# Altium schematic symbol library WL-SMTD.SchLib: 28 symbols
Pins are listed as number, name and electrical type; pins without a type are passive.

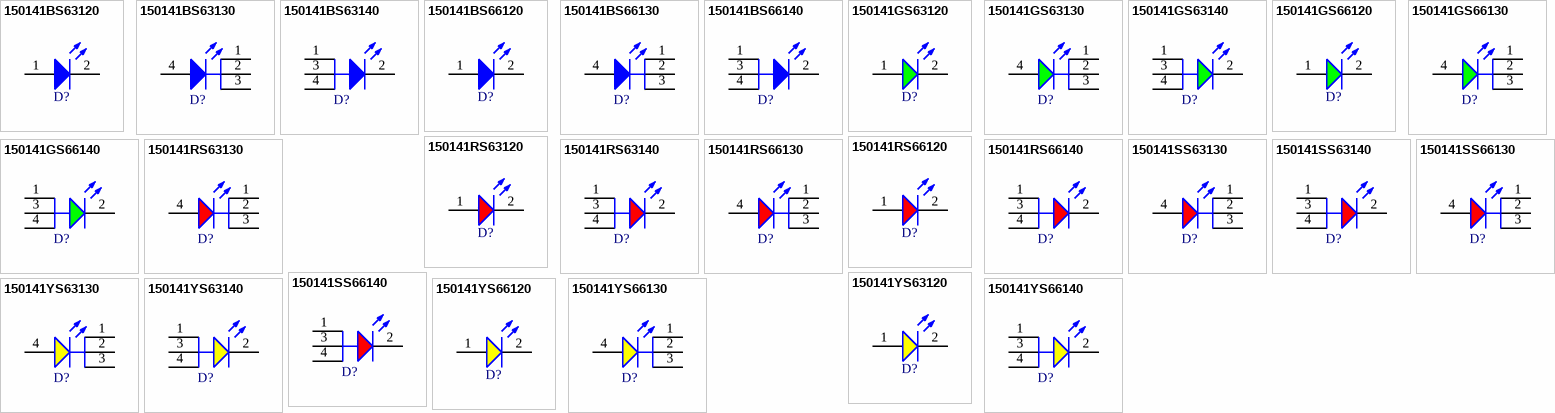
[diagram p0: symbols 150141BS63120 to 150141YS66140]

## 150141BS63120
designator D?, comment Blue, 3.2V, 30°  (value not drawn)
WL-SMTD Mono-color TOP LED Diffused Dome, SMT, 3528 30° dome black, Blue, 3.2V, 30°; Manufacturer Part Number: 150141BS63120; Manufacturer: Wurth Elektronik; Chip Technology: InGaN; Dominant Wavelength: 470nm; Luminous Intensity: 4000mcd; Peak Wavelength: 465nm; Category: Signal LEDs; Match Code: WL-SMTD; ComponentLink1Description: Website Link; ComponentLink1URL: https://www.we-online.com/redexpert/article/150141BS63120?ad; ComponentLink2Description: Datasheet Link; ComponentLink2URL: https://www.we-online.com/redexpert/spec/150141BS63120?ad; Mount: Surface Mount; Operating Temperature Max: 100°C; Operating Temperature Min: -40°C; Packaging: Tape and Reel; Case/Size Code: 3528 30° dome black; Length: 3.5mm; Width: 2.8mm; Height: 3.4mm; Emitting Color: Blue; Forward Voltage: 3.2V; Viewing Angle: 30°
footprint 150141xx63120
pins: 1 A, 2 K

## 150141BS63130
designator D?, comment Blue, 3.2V, 30°  (value not drawn)
WL-SMTD Mono-color TOP LED Diffused Dome, SMT, 3528 30° dome, Blue, 3.2V, 30°; Manufacturer Part Number: 150141BS63130; Manufacturer: Wurth Elektronik; Chip Technology: InGaN; Dominant Wavelength: 470nm; Luminous Intensity: 6000mcd; Peak Wavelength: 465nm; Category: Signal LEDs; Match Code: WL-SMTD; ComponentLink1Description: Website Link; ComponentLink1URL: https://www.we-online.com/redexpert/article/150141BS63130?ad; ComponentLink2Description: Datasheet Link; ComponentLink2URL: https://www.we-online.com/redexpert/spec/150141BS63130?ad; Mount: Surface Mount; Operating Temperature Max: 100°C; Operating Temperature Min: -40°C; Packaging: Tape and Reel; Case/Size Code: 3528 30° dome; Length: 2.8mm; Width: 3.5mm; Height: 3.5mm; Emitting Color: Blue; Forward Voltage: 3.2V; Viewing Angle: 30°
footprint 150141xx63130
simulation model 3528_150141BS63130
pins: 1 K, 2 K, 3 K, 4 A

## 150141BS63140
designator D?, comment Blue, 3.2V, 30°  (value not drawn)
WL-SMTD Mono-color TOP LED Diffused Dome, SMT, 3528 30° dome, Blue, 3.2V, 30°; Manufacturer Part Number: 150141BS63140; Manufacturer: Wurth Elektronik; Chip Technology: InGaN; Dominant Wavelength: 470nm; Luminous Intensity: 6000mcd; Peak Wavelength: 465nm; Category: Signal LEDs; Match Code: WL-SMTD; ComponentLink1Description: Website Link; ComponentLink1URL: https://www.we-online.com/redexpert/article/150141BS63140?ad; ComponentLink2Description: Datasheet Link; ComponentLink2URL: https://www.we-online.com/redexpert/spec/150141BS63140?ad; Mount: Surface Mount; Operating Temperature Max: 100°C; Operating Temperature Min: -40°C; Packaging: Tape and Reel; Case/Size Code: 3528 30° dome; Length: 2.8mm; Width: 3.5mm; Height: 3.5mm; Emitting Color: Blue; Forward Voltage: 3.2V; Viewing Angle: 30°
footprint 150141xx63140
simulation model 3528_150141BS63140
pins: 1 A, 2 K, 3 A, 4 A

## 150141BS66120
designator D?, comment Blue, 3.2V, 60°  (value not drawn)
WL-SMTD Mono-color TOP LED Diffused Dome, SMT, 3528 60° dome black, Blue, 3.2V, 60°; Manufacturer Part Number: 150141BS66120; Manufacturer: Wurth Elektronik; Chip Technology: InGaN; Dominant Wavelength: 470nm; Luminous Intensity: 3000mcd; Peak Wavelength: 465nm; Category: Signal LEDs; Match Code: WL-SMTD; ComponentLink1Description: Website Link; ComponentLink1URL: https://www.we-online.com/redexpert/article/150141BS66120?ad; ComponentLink2Description: Datasheet Link; ComponentLink2URL: https://www.we-online.com/redexpert/spec/150141BS66120?ad; Mount: Surface Mount; Operating Temperature Max: 100°C; Operating Temperature Min: -40°C; Packaging: Tape and Reel; Case/Size Code: 3528 60° dome black; Length: 3.5mm; Width: 2.8mm; Height: 3.2mm; Emitting Color: Blue; Forward Voltage: 3.2V; Viewing Angle: 60°
footprint 150141xx66120
pins: 1 A, 2 K

## 150141BS66130
designator D?, comment Blue, 3.2V, 60°  (value not drawn)
WL-SMTD Mono-color TOP LED Diffused Dome, SMT, 3528 60° dome, Blue, 3.2V, 60°; Manufacturer Part Number: 150141BS66130; Manufacturer: Wurth Elektronik; Chip Technology: InGaN; Dominant Wavelength: 470nm; Luminous Intensity: 3500mcd; Peak Wavelength: 465nm; Category: Signal LEDs; Match Code: WL-SMTD; ComponentLink1Description: Website Link; ComponentLink1URL: https://www.we-online.com/redexpert/article/150141BS66130?ad; ComponentLink2Description: Datasheet Link; ComponentLink2URL: https://www.we-online.com/redexpert/spec/150141BS66130?ad; Mount: Surface Mount; Operating Temperature Max: 100°C; Operating Temperature Min: -40°C; Packaging: Tape and Reel; Case/Size Code: 3528 60° dome; Length: 2.8mm; Width: 3.5mm; Height: 3.25mm; Emitting Color: Blue; Forward Voltage: 3.2V; Viewing Angle: 60°
footprint 150141xx66130
simulation model 3528_150141BS66130
pins: 1 K, 2 K, 3 K, 4 A

## 150141BS66140
designator D?, comment Blue, 3.2V, 60°  (value not drawn)
WL-SMTD Mono-color TOP LED Diffused Dome, SMT, 3528 60° dome, Blue, 3.2V, 60°; Manufacturer Part Number: 150141BS66140; Manufacturer: Wurth Elektronik; Chip Technology: InGaN; Dominant Wavelength: 470nm; Luminous Intensity: 3500mcd; Peak Wavelength: 465nm; Category: Signal LEDs; Match Code: WL-SMTD; ComponentLink1Description: Website Link; ComponentLink1URL: https://www.we-online.com/redexpert/article/150141BS66140?ad; ComponentLink2Description: Datasheet Link; ComponentLink2URL: https://www.we-online.com/redexpert/spec/150141BS66140?ad; Mount: Surface Mount; Operating Temperature Max: 100°C; Operating Temperature Min: -40°C; Packaging: Tape and Reel; Case/Size Code: 3528 60° dome; Length: 2.8mm; Width: 3.5mm; Height: 3.25mm; Emitting Color: Blue; Forward Voltage: 3.2V; Viewing Angle: 60°
footprint 150141xx66140
simulation model 3528_150141BS66140
pins: 1 A, 2 K, 3 A, 4 A

## 150141GS63120
designator D?, comment Green, 3.1V, 30°  (value not drawn)
WL-SMTD Mono-color TOP LED Diffused Dome, SMT, 3528 30° dome black, Green, 3.1V, 30°; Manufacturer Part Number: 150141GS63120; Manufacturer: Wurth Elektronik; Chip Technology: InGaN; Dominant Wavelength: 525nm; Luminous Intensity: 8000mcd; Peak Wavelength: 515nm; Category: Signal LEDs; Match Code: WL-SMTD; ComponentLink1Description: Website Link; ComponentLink1URL: https://www.we-online.com/redexpert/article/150141GS63120?ad; ComponentLink2Description: Datasheet Link; ComponentLink2URL: https://www.we-online.com/redexpert/spec/150141GS63120?ad; Mount: Surface Mount; Operating Temperature Max: 100°C; Operating Temperature Min: -40°C; Packaging: Tape and Reel; Case/Size Code: 3528 30° dome black; Length: 3.5mm; Width: 2.8mm; Height: 3.4mm; Emitting Color: Green; Forward Voltage: 3.1V; Viewing Angle: 30°
footprint 150141xx63120
pins: 1 A, 2 K

## 150141GS63130
designator D?, comment Green, 3.2V, 30°  (value not drawn)
WL-SMTD Mono-color TOP LED Diffused Dome, SMT, 3528 30° dome, Green, 3.2V, 30°; Manufacturer Part Number: 150141GS63130; Manufacturer: Wurth Elektronik; Chip Technology: InGaN; Dominant Wavelength: 520nm; Luminous Intensity: 30000mcd; Peak Wavelength: 515nm; Category: Signal LEDs; Match Code: WL-SMTD; ComponentLink1Description: Website Link; ComponentLink1URL: https://www.we-online.com/redexpert/article/150141GS63130?ad; ComponentLink2Description: Datasheet Link; ComponentLink2URL: https://www.we-online.com/redexpert/spec/150141GS63130?ad; Mount: Surface Mount; Operating Temperature Max: 100°C; Operating Temperature Min: -40°C; Packaging: Tape and Reel; Case/Size Code: 3528 30° dome; Length: 2.8mm; Width: 3.5mm; Height: 3.5mm; Emitting Color: Green; Forward Voltage: 3.2V; Viewing Angle: 30°
footprint 150141xx63130
simulation model 3528_150141GS63130
pins: 1 K, 2 K, 3 K, 4 A

## 150141GS63140
designator D?, comment Green, 3.2V, 30°  (value not drawn)
WL-SMTD Mono-color TOP LED Diffused Dome, SMT, 3528 30° dome, Green, 3.2V, 30°; Manufacturer Part Number: 150141GS63140; Manufacturer: Wurth Elektronik; Chip Technology: InGaN; Dominant Wavelength: 520nm; Luminous Intensity: 30000mcd; Peak Wavelength: 515nm; Category: Signal LEDs; Match Code: WL-SMTD; ComponentLink1Description: Website Link; ComponentLink1URL: https://www.we-online.com/redexpert/article/150141GS63140?ad; ComponentLink2Description: Datasheet Link; ComponentLink2URL: https://www.we-online.com/redexpert/spec/150141GS63140?ad; Mount: Surface Mount; Operating Temperature Max: 100°C; Operating Temperature Min: -40°C; Packaging: Tape and Reel; Case/Size Code: 3528 30° dome; Length: 2.8mm; Width: 3.5mm; Height: 3.5mm; Emitting Color: Green; Forward Voltage: 3.2V; Viewing Angle: 30°
footprint 150141xx63140
simulation model 3528_150141GS63140
pins: 1 A, 2 K, 3 A, 4 A

## 150141GS66120
designator D?, comment Green, 3.1V, 60°  (value not drawn)
WL-SMTD Mono-color TOP LED Diffused Dome, SMT, 3528 60° dome black, Green, 3.1V, 60°; Manufacturer Part Number: 150141GS66120; Manufacturer: Wurth Elektronik; Chip Technology: InGaN; Dominant Wavelength: 525nm; Luminous Intensity: 5000mcd; Peak Wavelength: 515nm; Category: Signal LEDs; Match Code: WL-SMTD; ComponentLink1Description: Website Link; ComponentLink1URL: https://www.we-online.com/redexpert/article/150141GS66120?ad; ComponentLink2Description: Datasheet Link; ComponentLink2URL: https://www.we-online.com/redexpert/spec/150141GS66120?ad; Mount: Surface Mount; Operating Temperature Max: 100°C; Operating Temperature Min: -40°C; Packaging: Tape and Reel; Case/Size Code: 3528 60° dome black; Length: 3.5mm; Width: 2.8mm; Height: 3.2mm; Emitting Color: Green; Forward Voltage: 3.1V; Viewing Angle: 60°
footprint 150141xx66120
pins: 1 A, 2 K

## 150141GS66130
designator D?, comment Green, 3.2V, 60°  (value not drawn)
WL-SMTD Mono-color TOP LED Diffused Dome, SMT, 3528 60° dome, Green, 3.2V, 60°; Manufacturer Part Number: 150141GS66130; Manufacturer: Wurth Elektronik; Chip Technology: InGaN; Dominant Wavelength: 520nm; Luminous Intensity: 20000mcd; Peak Wavelength: 515nm; Category: Signal LEDs; Match Code: WL-SMTD; ComponentLink1Description: Website Link; ComponentLink1URL: https://www.we-online.com/redexpert/article/150141GS66130?ad; ComponentLink2Description: Datasheet Link; ComponentLink2URL: https://www.we-online.com/redexpert/spec/150141GS66130?ad; Mount: Surface Mount; Operating Temperature Max: 100°C; Operating Temperature Min: -40°C; Packaging: Tape and Reel; Case/Size Code: 3528 60° dome; Length: 2.8mm; Width: 3.5mm; Height: 3.25mm; Emitting Color: Green; Forward Voltage: 3.2V; Viewing Angle: 60°
footprint 150141xx66130
simulation model 3528_150141GS66130
pins: 1 K, 2 K, 3 K, 4 A

## 150141GS66140
designator D?, comment Green, 3.2V, 60°  (value not drawn)
WL-SMTD Mono-color TOP LED Diffused Dome, SMT, 3528 60° dome, Green, 3.2V, 60°; Manufacturer Part Number: 150141GS66140; Manufacturer: Wurth Elektronik; Chip Technology: InGaN; Dominant Wavelength: 520nm; Luminous Intensity: 20000mcd; Peak Wavelength: 515nm; Category: Signal LEDs; Match Code: WL-SMTD; ComponentLink1Description: Website Link; ComponentLink1URL: https://www.we-online.com/redexpert/article/150141GS66140?ad; ComponentLink2Description: Datasheet Link; ComponentLink2URL: https://www.we-online.com/redexpert/spec/150141GS66140?ad; Mount: Surface Mount; Operating Temperature Max: 100°C; Operating Temperature Min: -40°C; Packaging: Tape and Reel; Case/Size Code: 3528 60° dome; Length: 2.8mm; Width: 3.5mm; Height: 3.25mm; Emitting Color: Green; Forward Voltage: 3.2V; Viewing Angle: 60°
footprint 150141xx66140
simulation model 3528_150141GS66140
pins: 1 A, 2 K, 3 A, 4 A

## 150141RS63120
designator D?, comment Red, 2V, 30°  (value not drawn)
WL-SMTD Mono-color TOP LED Diffused Dome, SMT, 3528 30° dome black, Red, 2V, 30°; Manufacturer Part Number: 150141RS63120; Manufacturer: Wurth Elektronik; Chip Technology: AlGaInP; Dominant Wavelength: 620nm; Luminous Intensity: 6000mcd; Peak Wavelength: 630nm; Category: Signal LEDs; Match Code: WL-SMTD; ComponentLink1Description: Website Link; ComponentLink1URL: https://www.we-online.com/redexpert/article/150141RS63120?ad; ComponentLink2Description: Datasheet Link; ComponentLink2URL: https://www.we-online.com/redexpert/spec/150141RS63120?ad; Mount: Surface Mount; Operating Temperature Max: 100°C; Operating Temperature Min: -40°C; Packaging: Tape and Reel; Case/Size Code: 3528 30° dome black; Length: 3.5mm; Width: 2.8mm; Height: 3.4mm; Emitting Color: Red; Forward Voltage: 2V; Viewing Angle: 30°
footprint 150141xx63120
pins: 1 A, 2 K

## 150141RS63130
designator D?, comment Red, 2.4V, 30°  (value not drawn)
WL-SMTD Mono-color TOP LED Diffused Dome, SMT, 3528 30° dome, Red, 2.4V, 30°; Manufacturer Part Number: 150141RS63130; Manufacturer: Wurth Elektronik; Chip Technology: AlInGaP; Dominant Wavelength: 620nm; Luminous Intensity: 16000mcd; Peak Wavelength: 630nm; Category: Signal LEDs; Match Code: WL-SMTD; ComponentLink1Description: Website Link; ComponentLink1URL: https://www.we-online.com/redexpert/article/150141RS63130?ad; ComponentLink2Description: Datasheet Link; ComponentLink2URL: https://www.we-online.com/redexpert/spec/150141RS63130?ad; Mount: Surface Mount; Operating Temperature Max: 100°C; Operating Temperature Min: -40°C; Packaging: Tape and Reel; Case/Size Code: 3528 30° dome; Length: 2.8mm; Width: 3.5mm; Height: 3.5mm; Emitting Color: Red; Forward Voltage: 2.4V; Viewing Angle: 30°
footprint 150141xx63130
simulation model 3528_150141RS63130
pins: 1 K, 2 K, 3 K, 4 A

## 150141RS63140
designator D?, comment Red, 2.4V, 30°  (value not drawn)
WL-SMTD Mono-color TOP LED Diffused Dome, SMT, 3528 30° dome, Red, 2.4V, 30°; Manufacturer Part Number: 150141RS63140; Manufacturer: Wurth Elektronik; Chip Technology: AlInGaP; Dominant Wavelength: 620nm; Luminous Intensity: 16000mcd; Peak Wavelength: 630nm; Category: Signal LEDs; Match Code: WL-SMTD; ComponentLink1Description: Website Link; ComponentLink1URL: https://www.we-online.com/redexpert/article/150141RS63140?ad; ComponentLink2Description: Datasheet Link; ComponentLink2URL: https://www.we-online.com/redexpert/spec/150141RS63140?ad; Mount: Surface Mount; Operating Temperature Max: 100°C; Operating Temperature Min: -40°C; Packaging: Tape and Reel; Case/Size Code: 3528 30° dome; Length: 2.8mm; Width: 3.5mm; Height: 3.5mm; Emitting Color: Red; Forward Voltage: 2.4V; Viewing Angle: 30°
footprint 150141xx63140
simulation model 3528_150141RS63140
pins: 1 A, 2 K, 3 A, 4 A

## 150141RS66120
designator D?, comment Red, 2.2V, 60°  (value not drawn)
WL-SMTD Mono-color TOP LED Diffused Dome, SMT, 3528 60° dome black, Red, 2.2V, 60°; Manufacturer Part Number: 150141RS66120; Manufacturer: Wurth Elektronik; Chip Technology: AlGaInP; Dominant Wavelength: 620nm; Luminous Intensity: 1800mcd; Peak Wavelength: 630nm; Category: Signal LEDs; Match Code: WL-SMTD; ComponentLink1Description: Website Link; ComponentLink1URL: https://www.we-online.com/redexpert/article/150141RS66120?ad; ComponentLink2Description: Datasheet Link; ComponentLink2URL: https://www.we-online.com/redexpert/spec/150141RS66120?ad; Mount: Surface Mount; Operating Temperature Max: 100°C; Operating Temperature Min: -40°C; Packaging: Tape and Reel; Case/Size Code: 3528 60° dome black; Length: 3.5mm; Width: 2.8mm; Height: 3.2mm; Emitting Color: Red; Forward Voltage: 2.2V; Viewing Angle: 60°
footprint 150141xx66120
pins: 1 A, 2 K

## 150141RS66130
designator D?, comment Red, 2.4V, 60°  (value not drawn)
WL-SMTD Mono-color TOP LED Diffused Dome, SMT, 3528 60° dome, Red, 2.4V, 60°; Manufacturer Part Number: 150141RS66130; Manufacturer: Wurth Elektronik; Chip Technology: AlInGaP; Dominant Wavelength: 620nm; Luminous Intensity: 5500mcd; Peak Wavelength: 630nm; Category: Signal LEDs; Match Code: WL-SMTD; ComponentLink1Description: Website Link; ComponentLink1URL: https://www.we-online.com/redexpert/article/150141RS66130?ad; ComponentLink2Description: Datasheet Link; ComponentLink2URL: https://www.we-online.com/redexpert/spec/150141RS66130?ad; Mount: Surface Mount; Operating Temperature Max: 100°C; Operating Temperature Min: -40°C; Packaging: Tape and Reel; Case/Size Code: 3528 60° dome; Length: 2.8mm; Width: 3.5mm; Height: 3.25mm; Emitting Color: Red; Forward Voltage: 2.4V; Viewing Angle: 60°
footprint 150141xx66130
simulation model 3528_150141RS66130
pins: 1 K, 2 K, 3 K, 4 A

## 150141RS66140
designator D?, comment Red, 2.4V, 60°  (value not drawn)
WL-SMTD Mono-color TOP LED Diffused Dome, SMT, 3528 60° dome, Red, 2.4V, 60°; Manufacturer Part Number: 150141RS66140; Manufacturer: Wurth Elektronik; Chip Technology: AlInGaP; Dominant Wavelength: 620nm; Luminous Intensity: 5500mcd; Peak Wavelength: 630nm; Category: Signal LEDs; Match Code: WL-SMTD; ComponentLink1Description: Website Link; ComponentLink1URL: https://www.we-online.com/redexpert/article/150141RS66140?ad; ComponentLink2Description: Datasheet Link; ComponentLink2URL: https://www.we-online.com/redexpert/spec/150141RS66140?ad; Mount: Surface Mount; Operating Temperature Max: 100°C; Operating Temperature Min: -40°C; Packaging: Tape and Reel; Case/Size Code: 3528 60° dome; Length: 2.8mm; Width: 3.5mm; Height: 3.25mm; Emitting Color: Red; Forward Voltage: 2.4V; Viewing Angle: 60°
footprint 150141xx66140
simulation model 3528_150141RS66140
pins: 1 A, 2 K, 3 A, 4 A

## 150141SS63130
designator D?, comment Super Red, 2.4V, 30°  (value not drawn)
WL-SMTD Mono-color TOP LED Diffused Dome, SMT, 3528 30° dome, Super Red, 2.4V, 30°; Manufacturer Part Number: 150141SS63130; Manufacturer: Wurth Elektronik; Chip Technology: AlInGaP; Dominant Wavelength: 630nm; Luminous Intensity: 13000mcd; Peak Wavelength: 640nm; Category: Signal LEDs; Match Code: WL-SMTD; ComponentLink1Description: Website Link; ComponentLink1URL: https://www.we-online.com/redexpert/article/150141SS63130?ad; ComponentLink2Description: Datasheet Link; ComponentLink2URL: https://www.we-online.com/redexpert/spec/150141SS63130?ad; Mount: Surface Mount; Operating Temperature Max: 100°C; Operating Temperature Min: -40°C; Packaging: Tape and Reel; Case/Size Code: 3528 30° dome; Length: 2.8mm; Width: 3.5mm; Height: 3.5mm; Emitting Color: Super Red; Forward Voltage: 2.4V; Viewing Angle: 30°
footprint 150141xx63130
simulation model 3528_150141SS63130
pins: 1 K, 2 K, 3 K, 4 A

## 150141SS63140
designator D?, comment Super Red, 2.4V, 30°  (value not drawn)
WL-SMTD Mono-color TOP LED Diffused Dome, SMT, 3528 30° dome, Super Red, 2.4V, 30°; Manufacturer Part Number: 150141SS63140; Manufacturer: Wurth Elektronik; Chip Technology: AlInGaP; Dominant Wavelength: 630nm; Luminous Intensity: 13000mcd; Peak Wavelength: 640nm; Category: Signal LEDs; Match Code: WL-SMTD; ComponentLink1Description: Website Link; ComponentLink1URL: https://www.we-online.com/redexpert/article/150141SS63140?ad; ComponentLink2Description: Datasheet Link; ComponentLink2URL: https://www.we-online.com/redexpert/spec/150141SS63140?ad; Mount: Surface Mount; Operating Temperature Max: 100°C; Operating Temperature Min: -40°C; Packaging: Tape and Reel; Case/Size Code: 3528 30° dome; Length: 2.8mm; Width: 3.5mm; Height: 3.5mm; Emitting Color: Super Red; Forward Voltage: 2.4V; Viewing Angle: 30°
footprint 150141xx63140
simulation model 3528_150141SS63140
pins: 1 A, 2 K, 3 A, 4 A

## 150141SS66130
designator D?, comment Super Red, 2.4V, 60°  (value not drawn)
WL-SMTD Mono-color TOP LED Diffused Dome, SMT, 3528 60° dome, Super Red, 2.4V, 60°; Manufacturer Part Number: 150141SS66130; Manufacturer: Wurth Elektronik; Chip Technology: AlInGaP; Dominant Wavelength: 630nm; Luminous Intensity: 5200mcd; Peak Wavelength: 640nm; Category: Signal LEDs; Match Code: WL-SMTD; ComponentLink1Description: Website Link; ComponentLink1URL: https://www.we-online.com/redexpert/article/150141SS66130?ad; ComponentLink2Description: Datasheet Link; ComponentLink2URL: https://www.we-online.com/redexpert/spec/150141SS66130?ad; Mount: Surface Mount; Operating Temperature Max: 100°C; Operating Temperature Min: -40°C; Packaging: Tape and Reel; Case/Size Code: 3528 60° dome; Length: 2.8mm; Width: 3.5mm; Height: 3.25mm; Emitting Color: Super Red; Forward Voltage: 2.4V; Viewing Angle: 60°
footprint 150141xx66130
simulation model 3528_150141SS66130
pins: 1 K, 2 K, 3 K, 4 A

## 150141SS66140
designator D?, comment Super Red, 2.4V, 60°  (value not drawn)
WL-SMTD Mono-color TOP LED Diffused Dome, SMT, 3528 60° dome, Super Red, 2.4V, 60°; Manufacturer Part Number: 150141SS66140; Manufacturer: Wurth Elektronik; Chip Technology: AlInGaP; Dominant Wavelength: 630nm; Luminous Intensity: 5200mcd; Peak Wavelength: 640nm; Category: Signal LEDs; Match Code: WL-SMTD; ComponentLink1Description: Website Link; ComponentLink1URL: https://www.we-online.com/redexpert/article/150141SS66140?ad; ComponentLink2Description: Datasheet Link; ComponentLink2URL: https://www.we-online.com/redexpert/spec/150141SS66140?ad; Mount: Surface Mount; Operating Temperature Max: 100°C; Operating Temperature Min: -40°C; Packaging: Tape and Reel; Case/Size Code: 3528 60° dome; Length: 2.8mm; Width: 3.5mm; Height: 3.25mm; Emitting Color: Super Red; Forward Voltage: 2.4V; Viewing Angle: 60°
footprint 150141xx66140
simulation model 3528_150141SS66140
pins: 1 A, 2 K, 3 A, 4 A

## 150141YS63120
designator D?, comment Yellow, 2V, 30°  (value not drawn)
WL-SMTD Mono-color TOP LED Diffused Dome, SMT, 3528 30° dome black, Yellow, 2V, 30°; Manufacturer Part Number: 150141YS63120; Manufacturer: Wurth Elektronik; Chip Technology: AlGaInP; Dominant Wavelength: 590nm; Luminous Intensity: 4000mcd; Peak Wavelength: 592nm; Category: Signal LEDs; Match Code: WL-SMTD; ComponentLink1Description: Website Link; ComponentLink1URL: https://www.we-online.com/redexpert/article/150141YS63120?ad; ComponentLink2Description: Datasheet Link; ComponentLink2URL: https://www.we-online.com/redexpert/spec/150141YS63120?ad; Mount: Surface Mount; Operating Temperature Max: 100°C; Operating Temperature Min: -40°C; Packaging: Tape and Reel; Case/Size Code: 3528 30° dome black; Length: 3.5mm; Width: 2.8mm; Height: 3.4mm; Emitting Color: Yellow; Forward Voltage: 2V; Viewing Angle: 30°
footprint 150141xx63120
pins: 1 A, 2 K

## 150141YS63130
designator D?, comment Yellow, 2.4V, 30°  (value not drawn)
WL-SMTD Mono-color TOP LED Diffused Dome, SMT, 3528 30° dome, Yellow, 2.4V, 30°; Manufacturer Part Number: 150141YS63130; Manufacturer: Wurth Elektronik; Chip Technology: AlInGaP; Dominant Wavelength: 590nm; Luminous Intensity: 15000mcd; Peak Wavelength: 592nm; Category: Signal LEDs; Match Code: WL-SMTD; ComponentLink1Description: Website Link; ComponentLink1URL: https://www.we-online.com/redexpert/article/150141YS63130?ad; ComponentLink2Description: Datasheet Link; ComponentLink2URL: https://www.we-online.com/redexpert/spec/150141YS63130?ad; Mount: Surface Mount; Operating Temperature Max: 100°C; Operating Temperature Min: -40°C; Packaging: Tape and Reel; Case/Size Code: 3528 30° dome; Length: 2.8mm; Width: 3.5mm; Height: 3.5mm; Emitting Color: Yellow; Forward Voltage: 2.4V; Viewing Angle: 30°
footprint 150141xx63130
simulation model 3528_150141YS63130
pins: 1 K, 2 K, 3 K, 4 A

## 150141YS63140
designator D?, comment Yellow, 2.4V, 30°  (value not drawn)
WL-SMTD Mono-color TOP LED Diffused Dome, SMT, 3528 30° dome, Yellow, 2.4V, 30°; Manufacturer Part Number: 150141YS63140; Manufacturer: Wurth Elektronik; Chip Technology: AlInGaP; Dominant Wavelength: 590nm; Luminous Intensity: 15000mcd; Peak Wavelength: 592nm; Category: Signal LEDs; Match Code: WL-SMTD; ComponentLink1Description: Website Link; ComponentLink1URL: https://www.we-online.com/redexpert/article/150141YS63140?ad; ComponentLink2Description: Datasheet Link; ComponentLink2URL: https://www.we-online.com/redexpert/spec/150141YS63140?ad; Mount: Surface Mount; Operating Temperature Max: 100°C; Operating Temperature Min: -40°C; Packaging: Tape and Reel; Case/Size Code: 3528 30° dome; Length: 2.8mm; Width: 3.5mm; Height: 3.5mm; Emitting Color: Yellow; Forward Voltage: 2.4V; Viewing Angle: 30°
footprint 150141xx63140
simulation model 3528_150141YS63140
pins: 1 A, 2 K, 3 A, 4 A

## 150141YS66120
designator D?, comment Yellow, 2V, 60°  (value not drawn)
WL-SMTD Mono-color TOP LED Diffused Dome, SMT, 3528 60° dome black, Yellow, 2V, 60°; Manufacturer Part Number: 150141YS66120; Manufacturer: Wurth Elektronik; Chip Technology: AlGaInP; Dominant Wavelength: 590nm; Luminous Intensity: 2000mcd; Peak Wavelength: 592nm; Category: Signal LEDs; Match Code: WL-SMTD; ComponentLink1Description: Website Link; ComponentLink1URL: https://www.we-online.com/redexpert/article/150141YS66120?ad; ComponentLink2Description: Datasheet Link; ComponentLink2URL: https://www.we-online.com/redexpert/spec/150141YS66120?ad; Mount: Surface Mount; Operating Temperature Max: 100°C; Operating Temperature Min: -40°C; Packaging: Tape and Reel; Case/Size Code: 3528 60° dome black; Length: 3.5mm; Width: 2.8mm; Height: 3.2mm; Emitting Color: Yellow; Forward Voltage: 2V; Viewing Angle: 60°
footprint 150141xx66120
pins: 1 A, 2 K

## 150141YS66130
designator D?, comment Yellow, 2.4V, 60°  (value not drawn)
WL-SMTD Mono-color TOP LED Diffused Dome, SMT, 3528 60° dome, Yellow, 2.4V, 60°; Manufacturer Part Number: 150141YS66130; Manufacturer: Wurth Elektronik; Chip Technology: AlInGaP; Dominant Wavelength: 590nm; Luminous Intensity: 5300mcd; Peak Wavelength: 592nm; Category: Signal LEDs; Match Code: WL-SMTD; ComponentLink1Description: Website Link; ComponentLink1URL: https://www.we-online.com/redexpert/article/150141YS66130?ad; ComponentLink2Description: Datasheet Link; ComponentLink2URL: https://www.we-online.com/redexpert/spec/150141YS66130?ad; Mount: Surface Mount; Operating Temperature Max: 100°C; Operating Temperature Min: -40°C; Packaging: Tape and Reel; Case/Size Code: 3528 60° dome; Length: 2.8mm; Width: 3.5mm; Height: 3.25mm; Emitting Color: Yellow; Forward Voltage: 2.4V; Viewing Angle: 60°
footprint 150141xx66130
simulation model 3528_150141YS66130
pins: 1 K, 2 K, 3 K, 4 A

## 150141YS66140
designator D?, comment Yellow, 2.4V, 60°  (value not drawn)
WL-SMTD Mono-color TOP LED Diffused Dome, SMT, 3528 60° dome, Yellow, 2.4V, 60°; Manufacturer Part Number: 150141YS66140; Manufacturer: Wurth Elektronik; Chip Technology: AlInGaP; Dominant Wavelength: 590nm; Luminous Intensity: 5300mcd; Peak Wavelength: 592nm; Category: Signal LEDs; Match Code: WL-SMTD; ComponentLink1Description: Website Link; ComponentLink1URL: https://www.we-online.com/redexpert/article/150141YS66140?ad; ComponentLink2Description: Datasheet Link; ComponentLink2URL: https://www.we-online.com/redexpert/spec/150141YS66140?ad; Mount: Surface Mount; Operating Temperature Max: 100°C; Operating Temperature Min: -40°C; Packaging: Tape and Reel; Case/Size Code: 3528 60° dome; Length: 2.8mm; Width: 3.5mm; Height: 3.25mm; Emitting Color: Yellow; Forward Voltage: 2.4V; Viewing Angle: 60°
footprint 150141xx66140
simulation model 3528_150141YS66140
pins: 1 A, 2 K, 3 A, 4 A